# Altium schematic symbol library MCU_Generico.SchLib: 1 symbol
Pins are listed as number, name and electrical type; pins without a type are passive.

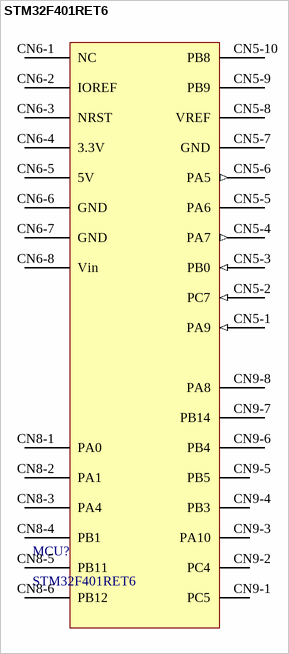
[diagram p0: symbol STM32F401RET6]

## STM32F401RET6
designator MCU?
STM32F401RET6 Microcontroller Nucleo board 512KB Flash Win 7/Win 8/Win Vista/Win XP OS; Manufacturer: STMicroelectronics; Manufacturer Part Number: NUCLEO-F401RE; Core Architecture: ARM Cortex-M4; Data Bus Width: 32b; Evaluation Kit: Yes; Interface: CAN, I2C, SPI, UART, USART, USB; Max Supply Voltage: 12V; Min Supply Voltage: 3V; Number of A/D Converters: 1; Number of ADC Channels: 5; Number of Bits: 32; Number of I2C Channels: 3; Number of I/Os: 15; Number of PWM Channels: 20; Number of SPI Channels: 2; Supplier: Newark; Supplier Part Number: NUCLEO-F401RE; RoHS: Compliant; Category: DSPs - Digital Signal Processors; Stock: 1399; Pricing: 1=18,44 (USD); Case/Package: LQFP; Lead Free: Lead Free; Lifecycle Status: Production; Memory Size: 512kB; Memory Format: FLASH; Number of UART Channels: 1; Number of USB Channels: 1; Operating Supply Voltage: 12V; REACH SVHC: No; Schedule B: 8473300002|8473300002|8473300002|8473300002|8473300002; ComponentLink1URL: https://datasheet.octopart.com:443/NUCLEO-F401RE-STMicroelectronics-datasheet-138897756.pdf?src-supplier=Upverter; ComponentLink1Description: https://datasheet.octopart.com:443/NUCLEO-F401RE-STMicroelectronics-datasheet-138897756.pdf?src-supplier=Upverter; ComponentLink2URL: https://datasheet.octopart.com:443/NUCLEO-F401RE-STMicroelectronics-datasheet-44363362.pdf?src-supplier=element14+APAC; ComponentLink2Description: https://datasheet.octopart.com:443/NUCLEO-F401RE-STMicroelectronics-datasheet-44363362.pdf?src-supplier=element14+APAC; ComponentLink3URL: https://datasheet.octopart.com:443/NUCLEO-F401RE-STMicroelectronics-datasheet-22171324.pdf?src-supplier=Farnell; ComponentLink3Description: https://datasheet.octopart.com:443/NUCLEO-F401RE-STMicroelectronics-datasheet-22171324.pdf?src-supplier=Farnell; ComponentLink4URL: https://datasheet.octopart.com:443/NUCLEO-F401RE-STMicroelectronics-datasheet-22975679.pdf?src-supplier=Farnell; ComponentLink4Description: https://datasheet.octopart.com:443/NUCLEO-F401RE-STMicroelectronics-datasheet-22975679.pdf?src-supplier=Farnell; ComponentLink5URL: https://datasheet.octopart.com:443/NUCLEO-F401RE-STMicroelectronics-datasheet-37114749.pdf?src-supplier=TME; ComponentLink5Description: https://datasheet.octopart.com:443/NUCLEO-F401RE-STMicroelectronics-datasheet-37114749.pdf?src-supplier=TME; ComponentLink6URL: https://datasheet.octopart.com:443/NUCLEO-F401RE-STMicroelectronics-datasheet-26588950.pdf?src-supplier=Newark; ComponentLink6Description: https://datasheet.octopart.com:443/NUCLEO-F401RE-STMicroelectronics-datasheet-26588950.pdf?src-supplier=Newark; ComponentLink7URL: https://datasheet.octopart.com:443/NUCLEO-F401RE-STMicroelectronics-datasheet-26525436.pdf?src-supplier=Newark; ComponentLink7Description: https://datasheet.octopart.com:443/NUCLEO-F401RE-STMicroelectronics-datasheet-26525436.pdf?src-supplier=Newark; ComponentLink8URL: https://datasheet.octopart.com:443/NUCLEO-F401RE-STMicroelectronics-datasheet-123737537.pdf?src-supplier=Future+Electronics; ComponentLink8Description: https://datasheet.octopart.com:443/NUCLEO-F401RE-STMicroelectronics-datasheet-123737537.pdf?src-supplier=Future+Electronics; ComponentLink9URL: https://datasheet.octopart.com:443/NUCLEO-F401RE-STMicroelectronics-datasheet-78838620.pdf?src-supplier=Future+Electronics; ComponentLink9Description: https://datasheet.octopart.com:443/NUCLEO-F401RE-STMicroelectronics-datasheet-78838620.pdf?src-supplier=Future+Electronics; Supplier 1: DigiKey; Supplier Part Number 1: 497-17429-ND
footprint Nucleo_Card
pins: CN5-1 PA9 (in), CN5-2 PC7 (in), CN5-3 PB0 (in), CN5-4 PA7 (out), CN5-5 PA6, CN5-6 PA5 (out), CN5-7 GND (power), CN5-8 VREF, CN5-9 PB9, CN5-10 PB8, CN6-1 NC, CN6-2 IOREF, CN6-3 NRST, CN6-4 3.3V (power), CN6-5 5V (power), CN6-6 GND (power), CN6-7 GND (power), CN6-8 Vin, CN8-1 PA0, CN8-2 PA1, CN8-3 PA4, CN8-4 PB1, CN8-5 PB11, CN8-6 PB12, CN9-1 PC5, CN9-2 PC4, CN9-3 PA10, CN9-4 PB3, CN9-5 PB5, CN9-6 PB4, CN9-7 PB14, CN9-8 PA8